# Altium footprint library TH.PcbLib: 16 footprints
Each footprint in its own frame and in the unit in brackets; x right, y up, seen from the top. Pads: shape width x height; smd on the part's side, far side on the other; paste and mask are expansions set on the pad; w line width, h text height; cw(c..) or ccw(c..) is an arc to the next point about the centre after c.
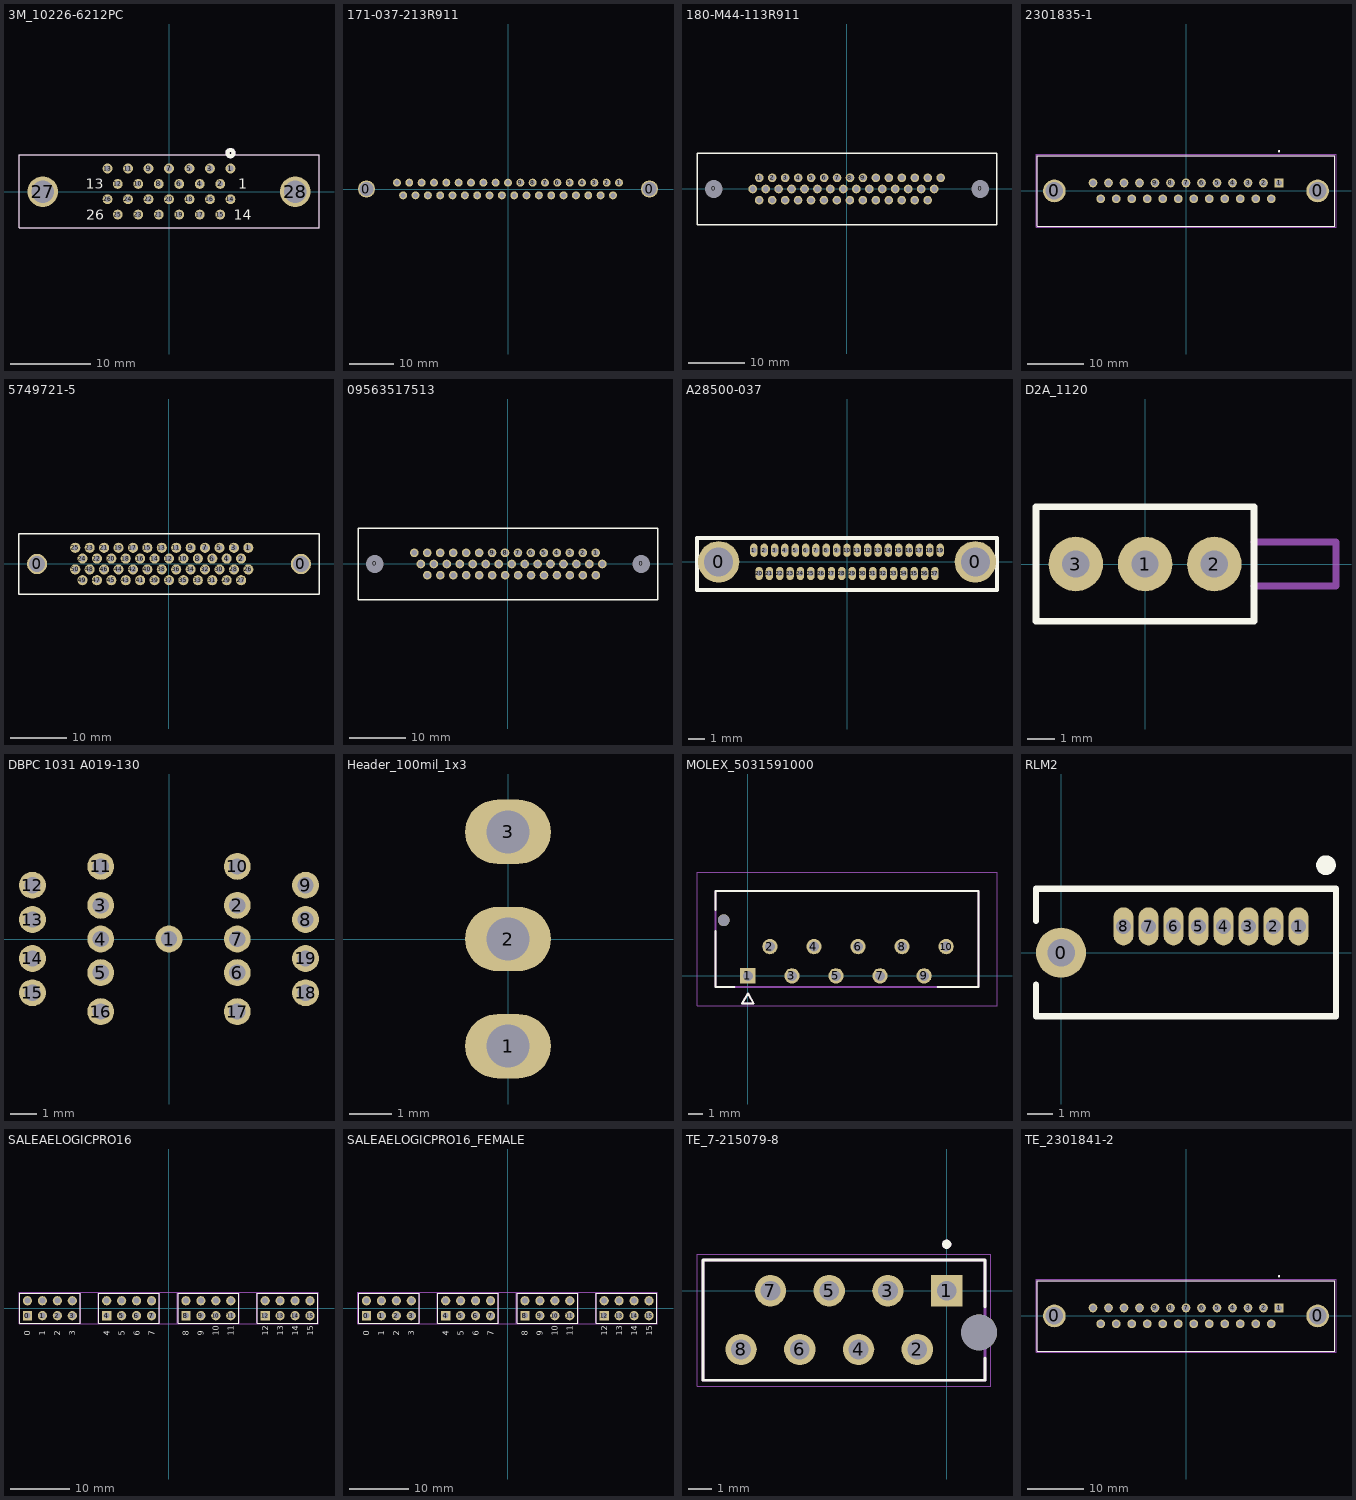
[diagram p0: the footprints below, top view; thin cyan lines are the x and y axes]

## 3M_10226-6212PC [mil]
pads (28):
  round 48 hole 28: 1(300,113) 2(250,38) 3(200,113) 4(150,38) 5(100,113) 6(50,38) 7(0,113) 8(-50,38) 9(-100,113) 10(-150,38) 11(-200,113) 12(-250,38) 13(-300,113) 14(300,-37) 15(250,-112) 16(200,-37) 17(150,-112) 18(100,-37) 19(50,-112) 20(0,-37) 21(-50,-112) 22(-100,-37) 23(-150,-112) 24(-200,-37) 25(-250,-112) 26(-300,-37)
  round 150 hole 110: 27(-616,0) 28(616,0)
Top Overlay:
  lines w6: -732,-177 -732,181 732,181 732,-177 -732,-177
  lines w20: 285,188 cw(c300,188) 315,188 cw(c300,188) 285,188
  text "26" at -405.01,-137 h50.01
  text "13" at -405.18,13.22 h50.09
  text "14" at 315.38,-137.02 h50.03
  text "1" at 338.03,13.2 h50.08
Mechanical 13:
  lines w6: -732,-177 -732,181 732,181 732,-177 -732,-177
  lines w20: 285,188 cw(c300,188) 315,188 cw(c300,188) 285,188
  text "26" at -405.14,-137.03 h50.07
  text "13" at -405.01,13.01 h50.01
  text "14" at 315.24,-137.01 h50.02
  text "1" at 337.7,13.14 h50.05
3D body "V_DGK_3M1819-ND.STEP": height 440, standoff -134, extent -730,-180 730,180

## 171-037-213R911 [mil] "DB-37"
pads (39):
  round 150 hole 126: 0(-1250,0) 0(1250,0)
  round 70 hole 43: 1(981,56) 2(872,56) 3(763,56) 4(654,56) 5(545,56) 6(436,56) 7(327,56) 8(218,56) 9(109,56) 10(0,56) 11(-109,56) 12(-218,56) 13(-327,56) 14(-436,56) 15(-545,56) 16(-654,56) 17(-763,56) 18(-872,56) 19(-981,56) 20(927,-56) 21(818,-56) 22(709,-56) 23(600,-56) 24(491,-56) 25(382,-56) 26(273,-56) 27(164,-56) 28(55,-56) 29(-54,-56) 30(-163,-56) 31(-272,-56) 32(-381,-56) 33(-490,-56) 34(-599,-56) 35(-708,-56) 36(-817,-56) 37(-926,-56)
3D body "9237FE-ND.STEP": height 526.22, standoff -156.88, extent -1364.17,-248.03 1364.17,248.03

## 180-M44-113R911 [mm] "CONN D-SUB HD RCPT 44P VERT SLDR MALE"
pads (46):
  round 1.524 hole 3.1: 0(-23.52,0) 0(23.52,0)
  round 1.524 hole 1: 1(-15.5,1.98) 2(-13.21,1.98) 3(-10.92,1.98) 4(-8.63,1.98) 5(-6.34,1.98) 6(-4.05,1.98) 7(-1.76,1.98) 8(0.53,1.98) 9(2.82,1.98) 10(5.11,1.98) 11(7.4,1.98) 12(9.69,1.98) 13(11.98,1.98) 14(14.27,1.98) 15(16.56,1.98) 16(-16.67,0) 17(-14.38,0) 18(-12.09,0) 19(-9.8,0) 20(-7.51,0) 21(-5.22,0) 22(-2.93,0) 23(-0.64,0) 24(1.65,0) 25(3.94,0) 26(6.23,0) 27(8.52,0) 28(10.81,0) 29(13.1,0) 30(15.39,0) 31(-15.52,-1.98) 32(-13.23,-1.98) 33(-10.94,-1.98) 34(-8.65,-1.98) 35(-6.36,-1.98) 36(-4.07,-1.98) 37(-1.78,-1.98) 38(0.51,-1.98) 39(2.8,-1.98) 40(5.09,-1.98) 41(7.38,-1.98) 42(9.67,-1.98) 43(11.96,-1.98) 44(14.25,-1.98)
Top Overlay:
  lines w0.254: -26.5,-6.275 26.5,-6.275 26.5,6.275 -26.5,6.275 -26.5,-6.275
3D body "180-M4491DMN-ND.STEP": height 12.2, standoff -6.51, extent -26.525,-6.26 26.485,6.338

## 2301835-1 [mm] "DB25 Male"
pads (27):
  round 4.064 hole 3.1: 0(-23.52,0) 0(23.52,0)
  rect 1.56x1.56 hole 1.04: 1(16.62,1.42)
  round 1.56 hole 1.04: 2(13.85,1.42) 3(11.08,1.42) 4(8.31,1.42) 5(5.54,1.42) 6(2.77,1.42) 7(0,1.42) 8(-2.77,1.42) 9(-5.54,1.42) 10(-8.31,1.42) 11(-11.08,1.42) 12(-13.85,1.42) 13(-16.62,1.42) 14(15.235,-1.42) 15(12.465,-1.42) 16(9.695,-1.42) 17(6.925,-1.42) 18(4.155,-1.42) 19(1.385,-1.42) 20(-1.385,-1.42) 21(-4.155,-1.42) 22(-6.925,-1.42) 23(-9.695,-1.42) 24(-12.465,-1.42) 25(-15.235,-1.42)
Top Overlay:
  circle w0.2: c16.625,7.1 r0.1
  lines w0.127: -26.55,-6.275 -26.55,6.275 26.55,6.275 26.55,-6.275 -26.55,-6.275
Mechanical 13:
  circle w0.2: c16.625,7.1 r0.1
  lines w0.127: -26.55,-6.275 -26.55,6.275 26.55,6.275 26.55,-6.275 -26.55,-6.275
Mechanical 15:
  lines w0.05: -26.8,-6.525 -26.8,6.525 26.8,6.525 26.8,-6.525 -26.8,-6.525
3D body "2301835-1.stp": height 12.8, standoff -4.35, extent -26.52,-6.275 26.52,6.275

## 5749721-5 [mil] "50 pos D-type HDHP"
pads (52):
  round 140 hole 110: 0(-915,0) 0(915,0)
  round 70 hole 40: 1(550,112.5) 2(500,37.5) 3(450,112.5) 4(400,37.5) 5(350,112.5) 6(300,37.5) 7(250,112.5) 8(200,37.5) 9(150,112.5) 10(100,37.5) 11(50,112.5) 12(0,37.5) 13(-50,112.5) 14(-100,37.5) 15(-150,112.5) 16(-200,37.5) 17(-250,112.5) 18(-300,37.5) 19(-350,112.5) 20(-400,37.5) 21(-450,112.5) 22(-500,37.5) 23(-550,112.5) 24(-600,37.5) 25(-650,112.5) 26(550,-37.5) 27(500,-112.5) 28(450,-37.5) 29(400,-112.5) 30(350,-37.5) 31(300,-112.5) 32(250,-37.5) 33(200,-112.5) 34(150,-37.5) 35(100,-112.5) 36(50,-37.5) 37(0,-112.5) 38(-50,-37.5) 39(-100,-112.5) 40(-150,-37.5) 41(-200,-112.5) 42(-250,-37.5) 43(-300,-112.5) 44(-350,-37.5) 45(-400,-112.5) 46(-450,-37.5) 47(-500,-112.5) 48(-550,-37.5) 49(-600,-112.5) 50(-650,-37.5)
Top Overlay:
  lines w10: -1040,-210 -1040,210 1040,210 1040,-210 -1040,-210
3D body "A31825-ND.stp": height 354, standoff -122, extent -1032.5,-203 1032.5,203

## 09563517513 [mm] "CONN D-SUB HD RCPT 44P VERT SLDR FEMALE"
pads (46):
  round 1.524 hole 3.1: 0(-23.52,0) 0(23.52,0)
  round 1.524 hole 1: 1(15.5,1.98) 2(13.21,1.98) 3(10.92,1.98) 4(8.63,1.98) 5(6.34,1.98) 6(4.05,1.98) 7(1.76,1.98) 8(-0.53,1.98) 9(-2.82,1.98) 10(-5.11,1.98) 11(-7.4,1.98) 12(-9.69,1.98) 13(-11.98,1.98) 14(-14.27,1.98) 15(-16.56,1.98) 16(16.67,0) 17(14.38,0) 18(12.09,0) 19(9.8,0) 20(7.51,0) 21(5.22,0) 22(2.93,0) 23(0.64,0) 24(-1.65,0) 25(-3.94,0) 26(-6.23,0) 27(-8.52,0) 28(-10.81,0) 29(-13.1,0) 30(-15.39,0) 31(15.52,-1.98) 32(13.23,-1.98) 33(10.94,-1.98) 34(8.65,-1.98) 35(6.36,-1.98) 36(4.07,-1.98) 37(1.78,-1.98) 38(-0.51,-1.98) 39(-2.8,-1.98) 40(-5.09,-1.98) 41(-7.38,-1.98) 42(-9.67,-1.98) 43(-11.96,-1.98) 44(-14.25,-1.98)
Top Overlay:
  lines w0.254: -26.5,-6.275 -26.5,6.275 26.5,6.275 26.5,-6.275 -26.5,-6.275
3D body "1195-2324-ND.STP": height 12.95, standoff -3.5, extent -26.525,-6.275 26.525,6.275

## A28500-037 [mil] "Nano-d 37"
pads (39):
  round 100 hole 70: 0(-310,0) 0(310,0)
  oval 18x32 hole 13: 1(-225,28) 2(-200,28) 3(-175,28) 4(-150,28) 5(-125,28) 6(-100,28) 7(-75,28) 8(-50,28) 9(-25,28) 10(0,28) 11(25,28) 12(50,28) 13(75,28) 14(100,28) 15(125,28) 16(150,28) 17(175,28) 18(200,28) 19(225,28) 20(-212.5,-28) 21(-187.5,-28) 22(-162.5,-28) 23(-137.5,-28) 24(-112.5,-28) 25(-87.5,-28) 26(-62.5,-28) 27(-37.5,-28) 28(-12.5,-28) 29(12.5,-28) 30(37.5,-28) 31(62.5,-28) 32(87.5,-28) 33(112.5,-28) 34(137.5,-28) 35(162.5,-28) 36(187.5,-28) 37(212.5,-28)
Top Overlay:
  lines w10: -362.5,-67.75 -362.5,57.25 362.5,57.25 362.5,-67.75 -362.5,-67.75
3D body "A28500-137.STEP": height 210, standoff -70, extent -362.5,-68 362.5,57.5

## D2A_1120 [mm]
pads (3):
  round 2 hole 1: 1(0,0) 2(2.54,0) 3(-2.54,0)
Top Overlay:
  lines w0.254: -4,-2.1 -4,2.1 4,2.1 4,-2.1 -4,-2.1
Mechanical 1:
  lines w0.254: 4,-0.8 7,-0.8 7,0.8 4,0.8
3D body "V_DIGIKEY_D2A_1120_LRIS2_JZ.STEP": height 6, standoff -3.5, extent -4,-2.8 7,2.8

## DBPC 1031 A019-130 [mm] "Fischer Connectors – DBPC 1031 A019-130"
pads (19):
  round 1 hole 0.6: 1(0,0) 2(2.54,1.25) 3(-2.54,1.25) 4(-2.54,0) 5(-2.54,-1.25) 6(2.54,-1.25) 7(2.54,0) 8(5.08,0.725) 9(5.08,2) 10(2.54,2.7) 11(-2.54,2.7) 12(-5.08,2) 13(-5.08,0.725) 14(-5.08,-0.725) 15(-5.08,-2) 16(-2.54,-2.7) 17(2.54,-2.7) 18(5.08,-2) 19(5.08,-0.725)

## Header_100mil_1x3 [mil]
pads (3):
  oval 80x60 hole 40: 1(0,-100) 2(0,0) 3(0,100)

## MOLEX_5031591000 [mm]
pads (11):
  rect 1.05x1.05 hole 0.7 mask+0.076: 1(0,0)
  round 1.05 hole 0.7 mask+0.076: 2(1.5,2) 4(4.5,2) 6(7.5,2) 8(10.5,2) 10(13.5,2)
  round 1.05 hole 0.7 mask+0.101: 3(3,0) 5(6,0) 7(9,0) 9(12,0)
  round 0.8 hole 0.8 unplated mask+0.076: ""(-1.65,3.8)
Top Overlay:
  lines w0.127: -2.2,3.05 -2.2,-0.76 -0.9,-0.76 ; -2.2,4.5 -2.2,5.79 15.7,5.79 15.7,-0.76 12.9,-0.76 ; -0.4,-1.89 0,-1.19 0.4,-1.89 -0.4,-1.89
Top Solder:
  circle w0.601: c13.5,2 r0.301
  circle w0.651: c12,0 r0.301
  circle w0.601: c10.5,2 r0.301
  circle w0.651: c9,0 r0.301
  circle w0.601: c7.5,2 r0.301
  circle w0.651: c6,0 r0.301
  circle w0.601: c4.5,2 r0.301
  circle w0.651: c3,0 r0.301
  circle w0.601: c1.5,2 r0.301
  circle w0.476: c-1.65,3.8 r0.238
Mechanical 13:
  lines w0.127: -2.2,-0.76 -2.2,5.79 15.7,5.79 15.7,-0.76 -2.2,-0.76 ; -0.4,-1.89 0,-1.19 0.4,-1.89 -0.4,-1.89
Mechanical 15:
  lines w0.05: -3.47,-2.03 16.97,-2.03 16.97,7.06 -3.47,7.06 -3.47,-2.03
3D body "5031591000.stp": height 7.98, standoff -3.44, extent -2.2,-0.75 15.7,5.8

## RLM2 [mm]
pads (9):
  round 2 hole 1.1: 0(0,0)
  oval 0.8x1.524 hole 0.6: 1(9.5,1.05) 2(8.5,1.05) 3(7.5,1.05) 4(6.5,1.05) 5(5.5,1.05) 6(4.5,1.05) 7(3.5,1.05) 8(2.5,1.05)
Top Overlay:
  circle w0.5: c10.6,3.5 r0.141
  lines w0.254: -1,-1.275 -1,-2.55 11,-2.55 11,2.55 -1,2.55 -1,1.275
3D body "V_RENISHAW_RLM_LRIS2_RN.STEP": height 8.5, standoff -2.5, extent -1,-2.5 11,2.5

## SALEAELOGICPRO16 [mm]
pads (32):
  rect 1.57x1.57 hole 1.02 paste-1000 mask+0: 0(-24.003,-1.27) 4(-10.541,-1.27) 8(2.921,-1.27) 12(16.383,-1.27)
  round 1.57 hole 1.02 paste-1000 mask+0: 1(-21.463,-1.27) 2(-18.923,-1.27) 3(-16.383,-1.27) 5(-8.001,-1.27) 6(-5.461,-1.27) 7(-2.921,-1.27) 9(5.461,-1.27) 10(8.001,-1.27) 11(10.541,-1.27) 13(18.923,-1.27) 14(21.463,-1.27) 15(24.003,-1.27) GND(-24.003,1.27) GND(-21.463,1.27) GND(-18.923,1.27) GND(-16.383,1.27) GND(-10.541,1.27) GND(-8.001,1.27) GND(-5.461,1.27) GND(-2.921,1.27) GND(2.921,1.27) GND(5.461,1.27) GND(8.001,1.27) GND(10.541,1.27) GND(16.383,1.27) GND(18.923,1.27) GND(21.463,1.27) GND(24.003,1.27)
Top Overlay:
  lines w0.2: -25.336,-2.58 -15.049,-2.58 -15.049,2.58 -25.336,2.58 -25.336,-2.58 ; -11.874,-2.58 -1.587,-2.58 -1.587,2.58 -11.874,2.58 -11.874,-2.58 ; 1.588,-2.58 11.875,-2.58 11.875,2.58 1.588,2.58 1.588,-2.58 ; 15.05,-2.58 25.337,-2.58 25.337,2.58 15.05,2.58 15.05,-2.58
  text "15" at 24.511,-4.648 h1.02
  text "14" at 21.971,-4.648 h1.02
  text "13" at 19.431,-4.648 h1.02
  text "12" at 16.891,-4.648 h1.02
  text "11" at 11.049,-4.648 h1.02
  text "10" at 8.509,-4.648 h1.02
  text "9" at 5.969,-4.648 h1.02
  text "8" at 3.429,-4.648 h1.02
  text "7" at -2.413,-4.648 h1.02
  text "6" at -4.953,-4.648 h1.02
  text "5" at -7.493,-4.648 h1.02
  text "4" at -10.033,-4.648 h1.02
  text "3" at -15.875,-4.648 h1.02
  text "2" at -18.415,-4.648 h1.02
  text "1" at -20.955,-4.648 h1.02
  text "0" at -23.495,-4.648 h1.02
Top 3D Body:
  lines w0.2: -25.336,-2.58 -15.049,-2.58 -15.049,2.58 -25.336,2.58 -25.336,-2.58 ; -11.874,-2.58 -1.587,-2.58 -1.587,2.58 -11.874,2.58 -11.874,-2.58 ; 1.588,-2.58 11.875,-2.58 11.875,2.58 1.588,2.58 1.588,-2.58 ; 15.05,-2.58 25.337,-2.58 25.337,2.58 15.05,2.58 15.05,-2.58
Top Courtyard:
  lines w0.2: -25.436,-2.68 25.437,-2.68 25.437,2.68 -25.436,2.68 -25.436,-2.68
Top Assembly:
  lines w0.2: -25.436,-2.68 -25.436,2.68 -14.949,2.68 -14.949,-2.68 -25.436,-2.68 ; -11.974,-2.68 -1.487,-2.68 -1.487,2.68 -11.974,2.68 -11.974,-2.68 ; 1.488,-2.68 11.975,-2.68 11.975,2.68 1.488,2.68 1.488,-2.68 ; 14.95,-2.68 25.437,-2.68 25.437,2.68 14.95,2.68 14.95,-2.68
3D body "Conn_Samtec_HTSW-104-07-G-D_eec.STEP": height 0.25, standoff 0, extent -25.436,-2.68 -14.949,2.68
3D body "Conn_Samtec_HTSW-104-07-G-D_eec.STEP": height 0.25, standoff 0, extent -11.974,-2.68 -1.487,2.68
3D body "Conn_Samtec_HTSW-104-07-G-D_eec.STEP": height 0.25, standoff 0, extent 1.488,-2.68 11.975,2.68
3D body "Conn_Samtec_HTSW-104-07-G-D_eec.STEP": height 0.25, standoff 0, extent 14.95,-2.68 25.437,2.68

## SALEAELOGICPRO16_FEMALE [mm]
pads (32):
  rect 1.57x1.57 hole 1.02 paste-1000 mask+0: 0(-24.003,-1.27) 4(-10.541,-1.27) 8(2.921,-1.27) 12(16.383,-1.27)
  round 1.57 hole 1.02 paste-1000 mask+0: 1(-21.463,-1.27) 2(-18.923,-1.27) 3(-16.383,-1.27) 5(-8.001,-1.27) 6(-5.461,-1.27) 7(-2.921,-1.27) 9(5.461,-1.27) 10(8.001,-1.27) 11(10.541,-1.27) 13(18.923,-1.27) 14(21.463,-1.27) 15(24.003,-1.27) GND(-24.003,1.27) GND(-21.463,1.27) GND(-18.923,1.27) GND(-16.383,1.27) GND(-10.541,1.27) GND(-8.001,1.27) GND(-5.461,1.27) GND(-2.921,1.27) GND(2.921,1.27) GND(5.461,1.27) GND(8.001,1.27) GND(10.541,1.27) GND(16.383,1.27) GND(18.923,1.27) GND(21.463,1.27) GND(24.003,1.27)
Top Overlay:
  lines w0.2: -25.336,-2.58 -25.336,2.58 -15.049,2.58 -15.049,-2.58 -25.336,-2.58 ; -11.874,-2.58 -11.874,2.58 -1.587,2.58 -1.587,-2.58 -11.874,-2.58 ; 1.588,-2.58 1.588,2.58 11.875,2.58 11.875,-2.58 1.588,-2.58 ; 15.05,-2.58 15.05,2.58 25.337,2.58 25.337,-2.58 15.05,-2.58
  text "0" at -23.495,-4.648 h1.02
  text "1" at -20.955,-4.648 h1.02
  text "2" at -18.415,-4.648 h1.02
  text "3" at -15.875,-4.648 h1.02
  text "4" at -10.033,-4.648 h1.02
  text "5" at -7.493,-4.648 h1.02
  text "6" at -4.953,-4.648 h1.02
  text "7" at -2.413,-4.648 h1.02
  text "8" at 3.429,-4.648 h1.02
  text "9" at 5.969,-4.648 h1.02
  text "10" at 8.509,-4.648 h1.02
  text "11" at 11.049,-4.648 h1.02
  text "12" at 16.891,-4.648 h1.02
  text "13" at 19.431,-4.648 h1.02
  text "14" at 21.971,-4.648 h1.02
  text "15" at 24.511,-4.648 h1.02
Top 3D Body:
  lines w0.2: -25.336,-2.58 -25.336,2.58 -15.049,2.58 -15.049,-2.58 -25.336,-2.58 ; -11.874,-2.58 -11.874,2.58 -1.587,2.58 -1.587,-2.58 -11.874,-2.58 ; 1.588,-2.58 1.588,2.58 11.875,2.58 11.875,-2.58 1.588,-2.58 ; 15.05,-2.58 15.05,2.58 25.337,2.58 25.337,-2.58 15.05,-2.58
Top Courtyard:
  lines w0.2: -25.436,-2.68 -25.436,2.68 25.437,2.68 25.437,-2.68 -25.436,-2.68
Top Assembly:
  lines w0.2: -25.436,-2.68 -14.949,-2.68 -14.949,2.68 -25.436,2.68 -25.436,-2.68 ; -11.974,-2.68 -11.974,2.68 -1.487,2.68 -1.487,-2.68 -11.974,-2.68 ; 1.488,-2.68 1.488,2.68 11.975,2.68 11.975,-2.68 1.488,-2.68 ; 14.95,-2.68 14.95,2.68 25.437,2.68 25.437,-2.68 14.95,-2.68
3D body "step_temp.STEP": height 8.5, standoff -3.06, extent -25.233,-2.54 -15.153,2.54
3D body "step_temp.STEP": height 8.5, standoff -3.06, extent -11.771,-2.54 -1.691,2.54
3D body "step_temp.STEP": height 8.5, standoff -3.06, extent 1.691,-2.54 11.771,2.54
3D body "step_temp.STEP": height 8.5, standoff -3.06, extent 15.153,-2.54 25.233,2.54

## TE_7-215079-8 [mm]
pads (9):
  rect 1.358x1.358 hole 0.85: 1(0,0)
  round 1.358 hole 0.85: 2(-1.27,-2.54) 3(-2.54,0) 4(-3.81,-2.54) 5(-5.08,0) 6(-6.35,-2.54) 7(-7.62,0) 8(-8.89,-2.54)
  round 1.55 hole 1.55 unplated: ""(1.4,-1.8)
Top Overlay:
  circle w0.2: c0,2.008 r0.1
  lines w0.127: 1.655,-2.9 1.655,-3.87 -10.545,-3.87 -10.545,1.33 1.655,1.33 1.655,-0.7
Mechanical 13:
  circle w0.2: c0,2.008 r0.1
  lines w0.127: -10.545,-3.87 1.655,-3.87 1.655,1.33 -10.545,1.33 -10.545,-3.87
Mechanical 15:
  lines w0.05: -10.795,-4.12 1.905,-4.12 1.905,1.58 -10.795,1.58 -10.795,-4.12
3D body "c-7-215079-8-t-3d.stp": height 4.05, standoff -3.1, extent -10.523,-3.779 1.567,1.221

## TE_2301841-2 [mm]
pads (27):
  round 4.064 hole 3.1: 0(-23.52,0) 0(23.52,0)
  rect 1.56x1.56 hole 1.04: 1(16.62,1.42)
  round 1.56 hole 1.04: 2(13.85,1.42) 3(11.08,1.42) 4(8.31,1.42) 5(5.54,1.42) 6(2.77,1.42) 7(0,1.42) 8(-2.77,1.42) 9(-5.54,1.42) 10(-8.31,1.42) 11(-11.08,1.42) 12(-13.85,1.42) 13(-16.62,1.42) 14(15.235,-1.42) 15(12.465,-1.42) 16(9.695,-1.42) 17(6.925,-1.42) 18(4.155,-1.42) 19(1.385,-1.42) 20(-1.385,-1.42) 21(-4.155,-1.42) 22(-6.925,-1.42) 23(-9.695,-1.42) 24(-12.465,-1.42) 25(-15.235,-1.42)
Top Overlay:
  circle w0.2: c16.625,7.1 r0.1
  lines w0.127: -26.55,-6.275 -26.55,6.275 26.55,6.275 26.55,-6.275 -26.55,-6.275
Mechanical 13:
  circle w0.2: c16.625,7.1 r0.1
  lines w0.127: -26.55,-6.275 -26.55,6.275 26.55,6.275 26.55,-6.275 -26.55,-6.275
Mechanical 15:
  lines w0.05: -26.8,-6.525 -26.8,6.525 26.8,6.525 26.8,-6.525 -26.8,-6.525
3D body "A132509-ND.stp": height 12.7, standoff -4.15, extent -26.55,-6.275 26.55,6.275